# Altium schematic symbol library Modules.SchLib: 4 symbols
Pins are listed as number, name and electrical type; pins without a type are passive.

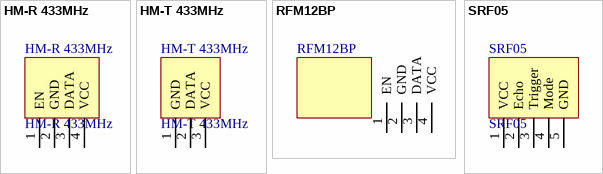
[diagram p0: symbols HM-R 433MHz to SRF05]

## HM-R 433MHz
designator HM-R 433MHz
Modules RF 433MHz; Designer: Seyed Mohsen ghasemian; WEB: www.picpars.com
footprint HM-R (Connector; Header; 4 Position)
pins: 1 EN, 2 GND, 3 DATA, 4 VCC

## HM-T 433MHz
designator HM-T 433MHz
Modules RF 433MHz; Designer: Seyed Mohsen ghasemian; WEB: www.picpars.com
footprint HM-T (Connector; Header; 3 Position)
pins: 1 GND, 2 DATA, 3 VCC

## RFM12BP
designator RFM12BP  (value not drawn)
Designer: Seyed Mohsen ghasemian; WEB: www.picpars.com
footprint RFM12BP
pins: 1 EN, 2 GND, 3 DATA, 4 VCC

## SRF05
designator SRF05
SRF05 - Ultra-Sonic Ranger; Designer: Seyed Mohsen ghasemian; WEB: www.picpars.com
footprint SRF05 (Connector; Header; 5 Position)
pins: 1 VCC, 2 Echo, 3 Trigger, 4 Mode, 5 GND